# EAGLE library part LTC3872 (library josh)
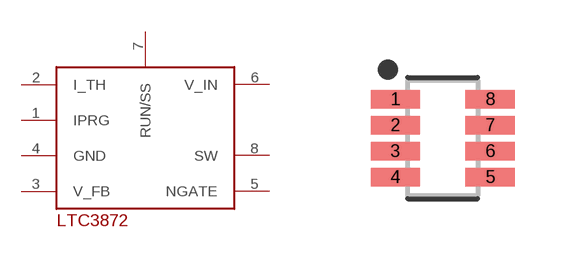
[diagram p5: symbol with the pads of SOT65P280X100-8N; footprint SOT65P280X100-8N]

Designator prefix -

## LTC3872  [SOT65P280X100-8N]
1  IPRG
2  I_TH
3  V_FB  in
4  GND  pwr
5  NGATE  out
6  V_IN
7  RUN/SS  in
8  SW  in

## Footprint SOT65P280X100-8N (pad centres in mm)
8-SOT23, 0.65 mm pitch, 2.80 mm span, 2.90 X 1.63 X 1.00 mm body 8-pin SOT23 package with 0.65 mm pitch, 2.80 mm span with body size 2.90 X 1.63 X 1.00 mm
smd 1.237 x 0.459: 1 -1.187,0.975; 2 -1.187,0.325; 3 -1.187,-0.325; 4 -1.187,-0.975; 5 1.187,-0.975; 6 1.187,-0.325; 7 1.187,0.325; 8 1.187,0.975